# Altium footprint library SDR1005.PcbLib: 1 footprints
Each footprint in its own frame and in the unit in brackets; x right, y up, seen from the top. Pads: shape width x height; smd on the part's side, far side on the other; paste and mask are expansions set on the pad; w line width, h text height; cw(c..) or ccw(c..) is an arc to the next point about the centre after c.
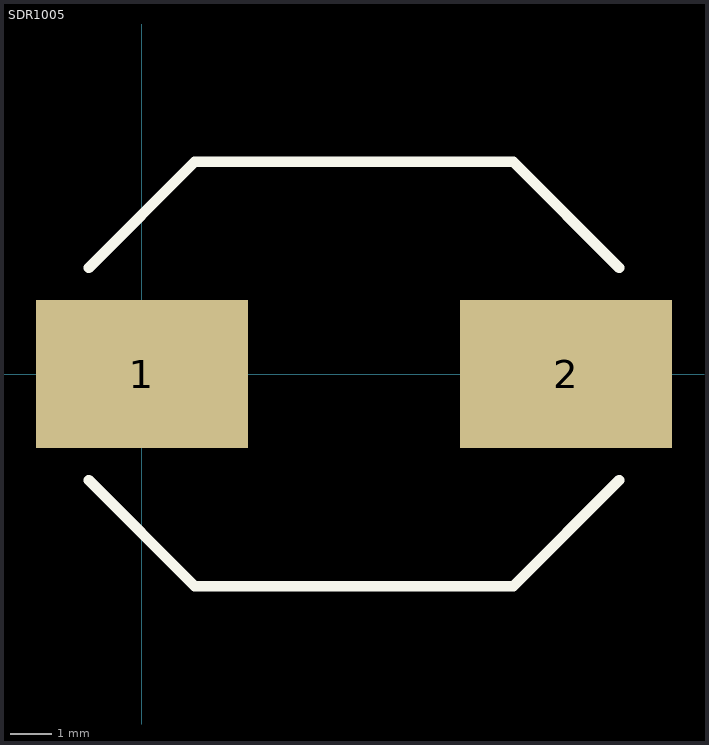
[diagram p0: the footprint, top view; thin cyan lines are the x and y axes]

## SDR1005 [mil]
pads (2):
  rect 200x140 smd: 1(0,0) 2(400,0)
Top Overlay:
  lines w10: -50,-100 50,-200 350,-200 450,-100 ; -50,100 50,200 350,200 450,100
3D body: height 211.42, standoff 0, extent -60,-185 460.08,185.08